# Altium integrated library OPA365AQDBVRQ1.IntLib: 1 symbol
Pins are listed as number, name and electrical type; pins without a type are passive.

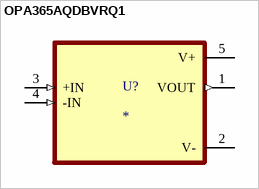
[diagram p0: symbol OPA365AQDBVRQ1]

## OPA365AQDBVRQ1
designator U?
Automotive 2.2V, 50MHz, Low-Noise, Single-Supply Rail-to-Rail Operational Amplifier; MF: Texas Instruments; MP: OPA365AQDBVRQ1; SnapEDA_Link: https://www.snapeda.com/parts/OPA365AQDBVRQ1/Texas+Instruments/view-part/?ref=snap; Package: SOT-23-5 Texas Instruments; Value: *; Check_prices: https://www.snapeda.com/parts/OPA365AQDBVRQ1/Texas+Instruments/view-part/?ref=eda
footprint SOT95P280X145-5N
pins: 1 VOUT (out), 2 V- (power), 3 +IN (in), 4 -IN (in), 5 V+ (power)